# Altium schematic symbol library LP2951-33DR.Schlib: 1 symbol
Pins are listed as number, name and electrical type; pins without a type are passive.

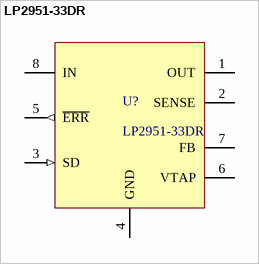
[diagram p0: symbol LP2951-33DR]

## LP2951-33DR
designator U?
pins: 1 OUT, 2 SENSE, 3 SD (in), 4 GND, 5 ~{ERR} (out), 6 VTAP, 7 FB, 8 IN